# Altium footprint library ultrasounic.PcbLib: 41 footprints (part 2 of 3)
Each footprint in its own frame and in the unit in brackets; x right, y up, seen from the top. Pads: shape width x height; smd on the part's side, far side on the other; paste and mask are expansions set on the pad; w line width, h text height; cw(c..) or ccw(c..) is an arc to the next point about the centre after c.
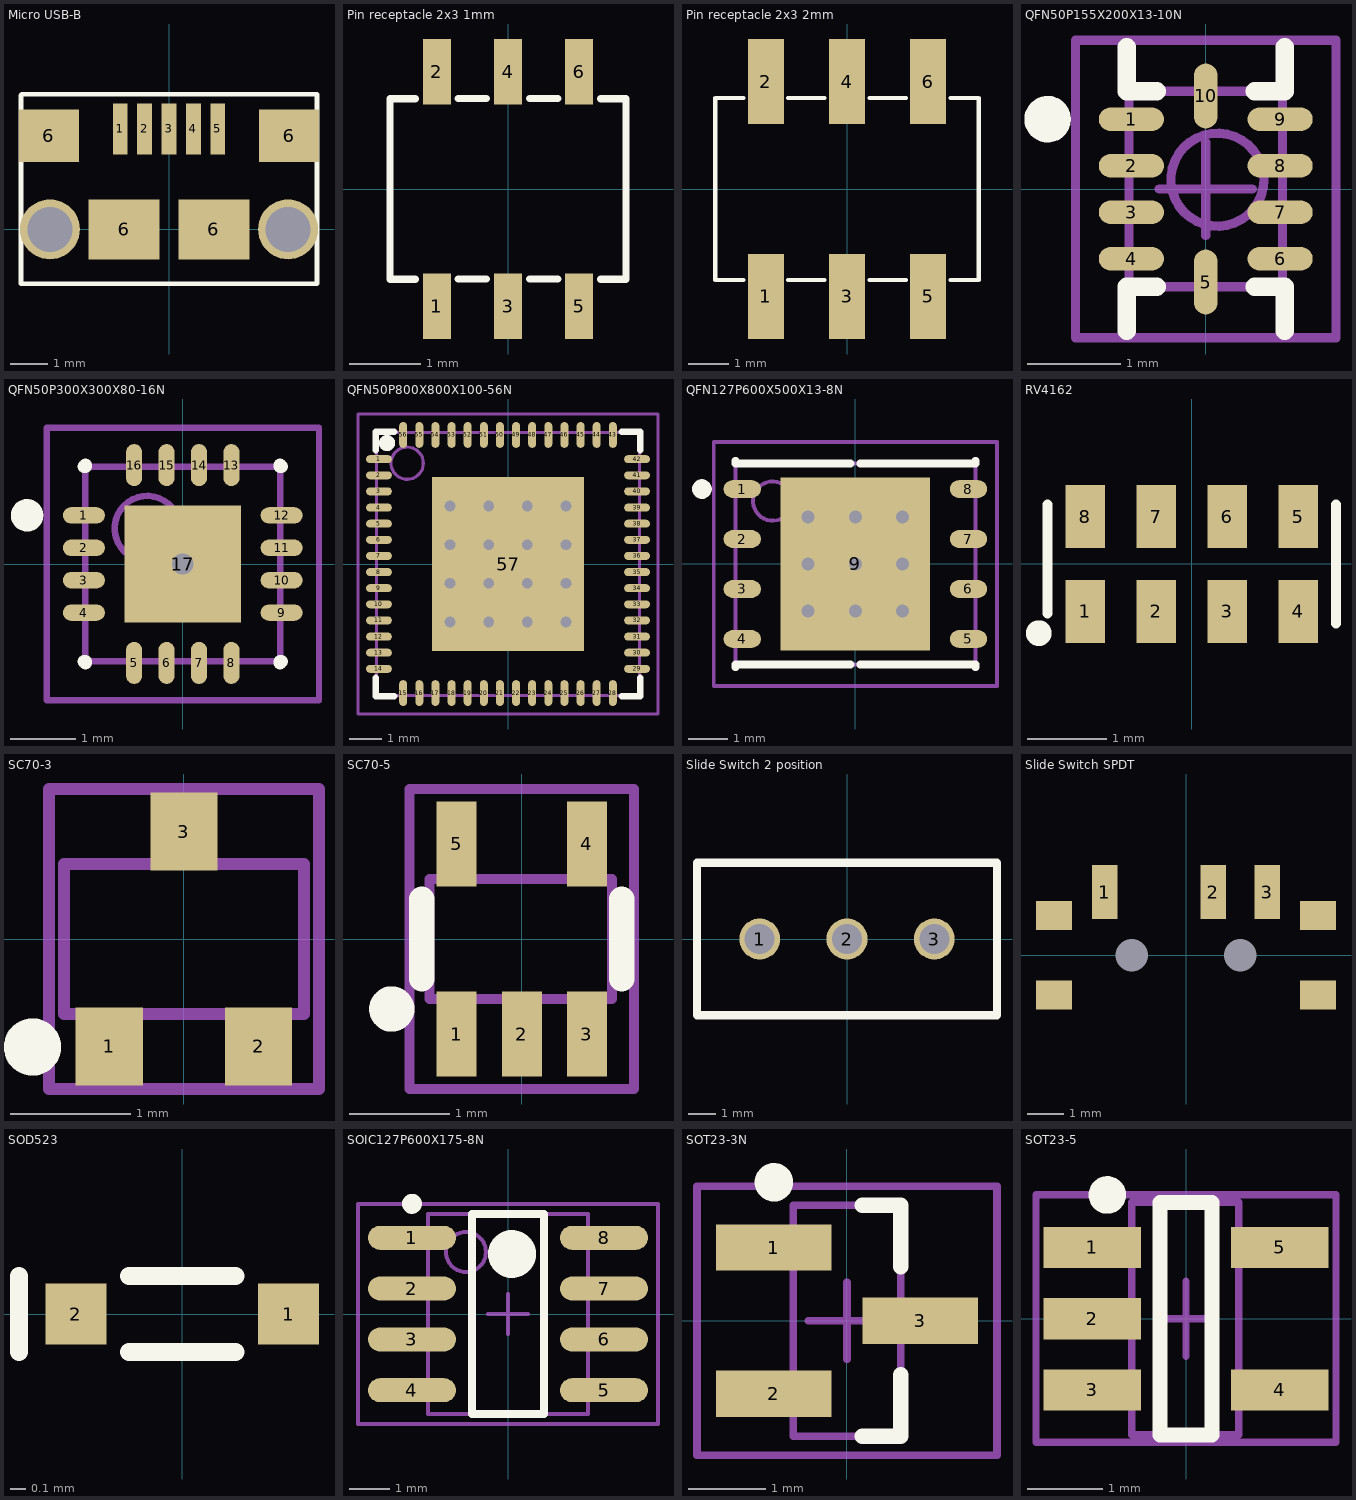
[diagram p1: the footprints below, top view; thin cyan lines are the x and y axes]

## Micro USB-B [mm]
pads (11):
  rect 0.4x1.35 smd mask+0.1: 1(-1.3,2.675) 2(-0.65,2.675) 3(0,2.675) 4(0.65,2.675) 5(1.3,2.675)
  rect 1.6x1.4 smd mask+0.1: 6(-3.2,2.5) 6(3.2,2.5)
  rect 1.9x1.6 smd mask+0.1: 6(-1.2,0) 6(1.2,0)
  round 1.6 hole 1.2: ""(-3.175,0) ""(3.175,0)
Top Overlay:
  lines w0.127: -3.95,-1.45 -3.95,3.575 -3.925,3.6 3.95,3.6 3.95,-1.45 -3.95,-1.45

## Pin receptacle 2x3 1mm [mm] "pin receptacle 2x3 1mm"
pads (6):
  rect 0.39x0.92 smd: 1(-1,-1.65) 2(-1,1.65) 3(0,-1.65) 4(0,1.65) 5(1,-1.65) 6(1,1.65)
Top Overlay:
  lines w0.1: -1.305,-1.27 -1.66,-1.27 -1.66,1.27 -1.305,1.27 ; -0.7,-1.265 -0.3,-1.265 ; -0.7,1.275 -0.3,1.275 ; 0.3,-1.265 0.7,-1.265 ; 0.3,1.275 0.7,1.275 ; 1.305,-1.27 1.66,-1.27 1.66,1.27 1.305,1.27
3D body: height 2.12, standoff 0, extent -1.2,-0.325 -0.725,0.325
3D body: height 2.12, standoff 0, extent -0.275,-0.325 0.275,0.325
3D body: height 2.12, standoff 0, extent 0.725,-0.325 1.2,0.325
3D body: height 2.12, standoff 0, extent -1.2,-1.25 -0.725,-0.75
3D body: height 2.12, standoff 0, extent -0.275,-1.25 0.275,-0.75
3D body: height 2.12, standoff 0, extent 0.725,-1.25 1.2,-0.75
3D body: height 2.12, standoff 0, extent 0.725,0.75 1.2,1.25
3D body: height 2.12, standoff 0, extent -0.275,0.75 0.275,1.25
3D body: height 2.12, standoff 0, extent -1.2,0.75 -0.725,1.25
3D body: height 2.12, standoff 0, extent 1.2,-1.25 1.65,1.25
3D body: height 2.12, standoff 0, extent 0.275,-1.25 0.725,1.25
3D body: height 2.12, standoff 0, extent -0.725,-1.25 -0.275,1.25
3D body: height 2.12, standoff 0, extent -1.65,-1.25 -1.2,1.25

## Pin receptacle 2x3 2mm [mm] "pin receptacle 2x3 2mm"
pads (6):
  rect 0.89x2.1 smd: 1(-2,-2.65) 2(-2,2.65) 3(0,-2.65) 4(0,2.65) 5(2,-2.65) 6(2,2.65)
Top Overlay:
  lines w0.1: -2.55,-2.25 -3.25,-2.25 -3.25,2.25 -2.55,2.25 ; -1.45,-2.25 -0.55,-2.25 ; -1.45,2.25 -0.55,2.25 ; 0.55,-2.25 1.45,-2.25 ; 0.55,2.25 1.45,2.25 ; 2.55,-2.25 3.25,-2.25 3.25,2.25 2.55,2.25
3D body: height 4.3, standoff 0, extent -3.25,-2.25 3.25,2.25

## QFN50P155X200X13-10N [mm] "QFN, 10-Leads, Body 2.1x1.6mm (max), Pitch 0.50mm, IPC Medium Density"
height 0.127
pads (10):
  oval 0.7x0.25 smd: 1(-0.8,0.75) 2(-0.8,0.25) 3(-0.8,-0.25) 4(-0.8,-0.75) 6(0.8,-0.75) 7(0.8,-0.25) 8(0.8,0.25) 9(0.8,0.75)
  oval 0.25x0.7 smd: 5(0,-1) 10(0,1)
Top Overlay:
  circle w0.25: c-1.7,0.75 r0.125
  lines w0.2: -0.85,-1.525 -0.85,-1.05 -0.525,-1.05 ; -0.85,1.525 -0.85,1.05 -0.525,1.05 ; 0.525,-1.05 0.85,-1.05 0.85,-1.525 ; 0.525,1.05 0.85,1.05 0.85,1.525
DesignatorTOP:
  text ".Designator" at -3.125,-0.225 h0.6
Mechanical 13:
  circle w0.1: c0.125,0.1 r0.5
  lines w0.1: -0.825,-1.05 -0.825,1.05 0.825,1.05 0.825,-1.05 -0.825,-1.05
Mechanical 15:
  lines w0.1: -0.5,0 0.5,0 ; 0,-0.5 0,0.5 ; -1.4,-1.6 -1.4,1.6 1.4,1.6 1.4,-1.6 -1.4,-1.6
3D body: height 0.13, standoff 0, extent -0.825,-1.05 0.825,1.05

## QFN50P300X300X80-16N [mm] "QFN, 16-Leads, Body 3.0x3.0mm (max), Pitch 0.50mm, IPC Medium Density"
height 0.8
pads (17):
  oval 0.65x0.25 smd: 1(-1.525,0.75) 2(-1.525,0.25) 3(-1.525,-0.25) 4(-1.525,-0.75) 9(1.525,-0.75) 10(1.525,-0.25) 11(1.525,0.25) 12(1.525,0.75)
  oval 0.25x0.65 smd: 5(-0.75,-1.525) 6(-0.25,-1.525) 7(0.25,-1.525) 8(0.75,-1.525) 13(0.75,1.525) 14(0.25,1.525) 15(-0.25,1.525) 16(-0.75,1.525)
  rect 1.8x1.8 smd: 17(0,0)
via 0,0 diameter 0.66 hole 0.33
Top Overlay:
  circle w0.25: c-2.4,0.75 r0.125
  lines w0.2: -1.525,-1.5 -1.5,-1.5 -1.5,-1.525 ; -1.525,1.5 -1.5,1.5 -1.5,1.525 ; 1.5,-1.525 1.5,-1.5 1.525,-1.5 ; 1.5,1.525 1.5,1.5 1.525,1.5
DesignatorTOP:
  text ".Designator" at -3.15,-0.2 h0.6
Mechanical 13:
  circle w0.1: c-0.55,0.55 r0.5
  lines w0.1: -1.5,-1.5 -1.5,1.5 1.5,1.5 1.5,-1.5 -1.5,-1.5
Mechanical 15:
  lines w0.1: -0.5,0 0.5,0 ; 0,-0.5 0,0.5 ; -2.1,-2.1 -2.1,2.1 2.1,2.1 2.1,-2.1 -2.1,-2.1
3D body: height 0.8, standoff 0, extent -1.5,-1.5 1.5,1.5

## QFN50P800X800X100-56N [mm] "QFN, 56-Leads, Body 8.1x8.1mm (max), Pitch 0.50mm, IPC Medium Density"
height 1
pads (57):
  oval 0.8x0.25 smd: 1(-4,3.25) 2(-4,2.75) 3(-4,2.25) 4(-4,1.75) 5(-4,1.25) 6(-4,0.75) 7(-4,0.25) 8(-4,-0.25) 9(-4,-0.75) 10(-4,-1.25) 11(-4,-1.75) 12(-4,-2.25) 13(-4,-2.75) 14(-4,-3.25) 29(4,-3.25) 30(4,-2.75) 31(4,-2.25) 32(4,-1.75) 33(4,-1.25) 34(4,-0.75) 35(4,-0.25) 36(4,0.25) 37(4,0.75) 38(4,1.25) 39(4,1.75) 40(4,2.25) 41(4,2.75) 42(4,3.25)
  oval 0.25x0.8 smd: 15(-3.25,-4) 16(-2.75,-4) 17(-2.25,-4) 18(-1.75,-4) 19(-1.25,-4) 20(-0.75,-4) 21(-0.25,-4) 22(0.25,-4) 23(0.75,-4) 24(1.25,-4) 25(1.75,-4) 26(2.25,-4) 27(2.75,-4) 28(3.25,-4) 43(3.25,4) 44(2.75,4) 45(2.25,4) 46(1.75,4) 47(1.25,4) 48(0.75,4) 49(0.25,4) 50(-0.25,4) 51(-0.75,4) 52(-1.25,4) 53(-1.75,4) 54(-2.25,4) 55(-2.75,4) 56(-3.25,4)
  rect 4.7x5.4 smd: 57(0,0)
via 1.8,-1.8 diameter 0.66 hole 0.33
via 0.6,-1.8 diameter 0.66 hole 0.33
via -0.6,-1.8 diameter 0.66 hole 0.33
via -1.8,-1.8 diameter 0.66 hole 0.33
via 1.8,-0.6 diameter 0.66 hole 0.33
via 0.6,-0.6 diameter 0.66 hole 0.33
via -0.6,-0.6 diameter 0.66 hole 0.33
via -1.8,-0.6 diameter 0.66 hole 0.33
via 1.8,0.6 diameter 0.66 hole 0.33
via 0.6,0.6 diameter 0.66 hole 0.33
via -0.6,0.6 diameter 0.66 hole 0.33
via -1.8,0.6 diameter 0.66 hole 0.33
via 1.8,1.8 diameter 0.66 hole 0.33
via 0.6,1.8 diameter 0.66 hole 0.33
via -0.6,1.8 diameter 0.66 hole 0.33
via -1.8,1.8 diameter 0.66 hole 0.33
Top Overlay:
  circle w0.25: c-3.75,3.75 r0.125
  lines w0.2: -4.1,-3.525 -4.1,-4.1 -3.525,-4.1 ; -4.1,3.525 -4.1,4.1 -3.525,4.1 ; 3.525,-4.1 4.1,-4.1 4.1,-3.525 ; 3.525,4.1 4.1,4.1 4.1,3.525
DesignatorTOP:
  text ".Designator" at -3,-0.2 h0.6
Mechanical 13:
  circle w0.1: c-3.125,3.125 r0.5
  lines w0.1: -4.075,-4.075 4.075,-4.075 4.075,4.075 -4.075,4.075 -4.075,-4.075
Mechanical 15:
  lines w0.1: -0.5,0 0.5,0 ; 0,-0.5 0,0.5 ; -4.65,-4.65 4.65,-4.65 4.65,4.65 -4.65,4.65 -4.65,-4.65
3D body: height 1, standoff 0, extent -4.075,-4.075 4.075,4.075

## QFN127P600X500X13-8N [mm] "QFN, 8-Leads, Body 5.1x6.1mm (max), Pitch 1.27mm, IPC Medium Density"
height 0.127
pads (9):
  oval 0.95x0.45 smd: 1(-2.875,1.905) 2(-2.875,0.635) 3(-2.875,-0.635) 4(-2.875,-1.905) 5(2.875,-1.905) 6(2.875,-0.635) 7(2.875,0.635) 8(2.875,1.905)
  rect 3.8x4.4 smd: 9(0,0)
via -1.2,1.2 diameter 0.66 hole 0.33
via 0,1.2 diameter 0.66 hole 0.33
via 1.2,1.2 diameter 0.66 hole 0.33
via -1.2,0 diameter 0.66 hole 0.33
via 0,0 diameter 0.66 hole 0.33
via 1.2,0 diameter 0.66 hole 0.33
via -1.2,-1.2 diameter 0.66 hole 0.33
via 0,-1.2 diameter 0.66 hole 0.33
via 1.2,-1.2 diameter 0.66 hole 0.33
Top Overlay:
  circle w0.25: c-3.9,1.905 r0.125
  lines w0.2: -3.05,-2.625 -3.05,-2.55 -0.125,-2.55 ; -3.05,2.625 -3.05,2.55 -0.125,2.55 ; 0.125,-2.55 3.05,-2.55 3.05,-2.625 ; 0.125,2.55 3.05,2.55 3.05,2.625
DesignatorTOP:
  text ".Designator" at -7.5,-0.475 h1.52
Mechanical 13:
  circle w0.1: c-2.1,1.6 r0.5
  lines w0.1: -3.05,-2.55 -3.05,2.55 3.05,2.55 3.05,-2.55 -3.05,-2.55
Mechanical 15:
  lines w0.1: -0.5,0 0.5,0 ; 0,-0.5 0,0.5 ; -3.6,-3.1 -3.6,3.1 3.6,3.1 3.6,-3.1 -3.6,-3.1
3D body: height 0.13, standoff 0, extent -3.05,-2.55 3.05,2.55

## RV4162 [mm] "RTC"
pads (8):
  rect 0.5x0.8 smd: 1(-1.35,-0.6) 2(-0.45,-0.6) 3(0.45,-0.6) 4(1.35,-0.6) 5(1.35,0.6) 6(0.45,0.6) 7(-0.45,0.6) 8(-1.35,0.6)
Top Overlay:
  circle w0.254: c-1.935,-0.875 r0.035
  lines w0.127: -1.825,-0.625 -1.825,0.75 ; 1.825,-0.75 1.825,0.75
3D body: height 0.8, standoff 0, extent -1.6,-0.75 1.6,0.75

## SC70-3 [mm] "SC70-3"
pads (3):
  rect 0.559x0.648 smd: 1(-0.623,-0.895) 2(0.623,-0.895) 3(0,0.895)
Top Overlay:
  circle w0.254: c-1.262,-0.9 r0.112
DesignatorTOP:
  text ".Designator" at -3.025,-0.2 h0.6
Mechanical 13:
  lines w0.1: -1,-0.625 -1,0.625 1,0.625 1,-0.625 -1,-0.625
Mechanical 15:
  lines w0.1: -1.125,-1.25 1.125,-1.25 1.125,1.25 -1.125,1.25 -1.125,-1.25
3D body: height 0.9, standoff 0, extent -1,-0.625 1,0.625

## SC70-5 [mm]
pads (5):
  rect 0.4x0.85 smd: 1(-0.65,-0.95) 2(0,-0.95) 3(0.65,-0.95) 4(0.65,0.95) 5(-0.65,0.95)
Top Overlay:
  circle w0.254: c-1.3,-0.7 r0.1
  lines w0.254: -1,-0.4 -1,0.4 ; 1,-0.4 1,0.4
DesignatorTOP:
  text ".Designator" at -3.225,-0.15 h0.6
Mechanical 13:
  lines w0.1: -0.925,-0.6 0.9,-0.6 0.9,0.6 -0.925,0.6 -0.925,-0.6
Mechanical 15:
  lines w0.1: -1.125,-1.5 1.125,-1.5 1.125,1.5 -1.125,1.5 -1.125,-1.5
3D body: height 0.8, standoff 0, extent -0.9,-0.6 0.9,0.6

## Slide Switch 2 position [mm] "Slide Switch 2 position"
pads (3):
  round 1.5 hole 1.1 mask-10: 1(-3.2,0) 2(0,0) 3(3.2,0)
Top Overlay:
  lines w0.305: -5.5,-2.8 5.5,-2.8 5.5,2.8 -5.5,2.8 -5.5,-2.8
3D body: height 5, standoff 0, extent -5.5,-2.8 5.5,2.8
3D body: height 10, standoff 5, extent -3.4,-1.7 0,1.7

## Slide Switch SPDT [mm] "Surface mount, 3 position, right angle slide switch"
pads (9):
  rect 0.7x1.5 smd: 1(-2.25,1.75) 2(0.75,1.75) 3(2.25,1.75)
  rect 1x0.8 smd: ""(-3.65,-1.1) ""(-3.65,1.1) ""(3.65,-1.1) ""(3.65,1.1)
  round 0 hole 0.9: ""(-1.5,0) ""(1.5,0)
3D body: height 1.25, standoff 0.15, extent -2.175,-2.7 -0.85,-1.3
3D body: height 1.4, standoff 0, extent -3.35,-1.3 3.35,1.3

## SOD523 [mm] "SOD523 Diodes"
pads (2):
  rect 0.4x0.4 smd: 1(0.7,0) 2(-0.7,0)
Top Overlay:
  lines w0.12: -1.075,-0.25 -1.075,0.25 ; -0.35,-0.25 0.35,-0.25 ; -0.35,0.25 0.35,0.25
3D body: height 0.8, standoff 0, extent -0.65,-0.45 0.65,0.45

## SOIC127P600X175-8N [mm] "SOIC, 8-Leads, Body 5.0x4.0mm (max), Pitch 1.27mm, IPC Medium Density"
height 1.75
pads (8):
  oval 2.2x0.6 smd: 1(-2.4,1.905) 2(-2.4,0.635) 3(-2.4,-0.635) 4(-2.4,-1.905) 5(2.4,-1.905) 6(2.4,-0.635) 7(2.4,0.635) 8(2.4,1.905)
Top Overlay:
  circle w0.6: c0.1,1.5 r0.3
  circle w0.25: c-2.4,2.755 r0.125
  lines w0.2: -0.9,-2.5 0.9,-2.5 0.9,2.5 -0.9,2.5 -0.9,-2.5
Mechanical 13:
  circle w0.1: c-1.05,1.55 r0.5
  lines w0.1: -2,-2.5 2,-2.5 2,2.5 -2,2.5 -2,-2.5
Mechanical 15:
  lines w0.1: -0.5,0 0.5,0 ; 0,-0.5 0,0.5 ; -3.75,-2.75 3.75,-2.75 3.75,2.75 -3.75,2.75 -3.75,-2.75
3D body: height 1.75, standoff 0.2, extent -2,-2.5 2,2.5

## SOT23-3N [mm] "SOT23, 3-Leads, Body 2.9x1.3mm, Pitch 0.95mm, Lead Span 2.5mm, IPC Medium Density"
height 1.1
pads (3):
  rect 1.5x0.6 smd: 1(-0.95,0.95) 2(-0.95,-0.95) 3(0.95,0)
Top Overlay:
  circle w0.25: c-0.95,1.8 r0.125
  lines w0.2: 0.2,-1.5 0.7,-1.5 0.7,-0.7 ; 0.2,1.5 0.7,1.5 0.7,0.7
Mechanical 13:
  lines w0.1: -0.7,-1.5 0.7,-1.5 0.7,1.5 -0.7,1.5 -0.7,-1.5
Mechanical 15:
  lines w0.1: -0.5,0 0.5,0 ; 0,-0.5 0,0.5 ; -1.95,-1.75 1.95,-1.75 1.95,1.75 -1.95,1.75 -1.95,-1.75
3D body: height 1.1, standoff 0, extent -0.7,-1.5 0.7,1.5

## SOT23-5 [mm] "SOT23, 5-Leads, Body 2.9x1.6mm, Pitch 0.95mm, Lead Span 2.8mm, IPC High Density"
height 1.45
pads (5):
  rect 1.3x0.55 smd: 1(-1.25,0.95) 2(-1.25,0) 3(-1.25,-0.95) 4(1.25,-0.95) 5(1.25,0.95)
Top Overlay:
  circle w0.25: c-1.05,1.65 r0.125
  lines w0.2: -0.35,-1.55 0.35,-1.55 0.35,1.55 -0.35,1.55 -0.35,-1.55
Mechanical 13:
  lines w0.1: -0.725,-1.55 -0.725,1.55 0.7,1.55 0.7,-1.55 -0.725,-1.55
Mechanical 15:
  lines w0.1: -0.375,0 0.35,0 ; 0,-0.5 0,0.5 ; -2,-1.65 -2,1.65 2,1.65 2,-1.65 -2,-1.65
3D body: height 1.45, standoff 0, extent -0.675,-1.5 0.65,1.5